# EAGLE library part MAX3002E (library tdcs)
Bidirectional logic translator MAX3002 features 8 bidrectional translator ports in a TSSOP20 or TQFN20 package MAX300X family of bidirecitonal logic translators, MAX300X Family uses an architecture specifically designed to be bidirectional without the use of a directional pin. The MAX3000E/MAX3001E/MAX3002/MAX3004–MAX3012 feature an EN input that, when low, reduces the VCC and VLsupply currents to < 2µA. The MAX3000E/MAX3001E also have ±15kV ESD protection on the I/O VCC side for greater protection in applications that route signals externally. The MAX3000E operates at a guaranteed datarate of 230kbps. The MAX3001E operates at a guaranteed data rate of 4Mbps. The MAX3002–MAX3012 operate at a guaranteed data rate of 20Mbps over the entire specified operating voltage range. Datasheet <http://datasheets.maximintegrated.com/en/ds/MAX3000E-MAX3012.pdf>
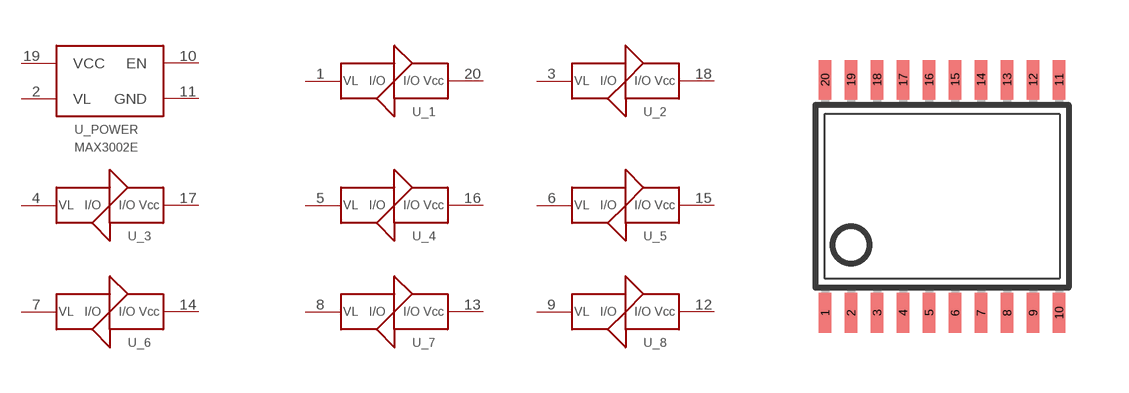
[diagram p6: symbol with the pads of TSSOP20; footprint TSSOP20]

Designator prefix U; gates _POWER=MAX300X_COM _1=MAX300X_BI_GATE _3=MAX300X_BI_GATE _4=MAX300X_BI_GATE _6=MAX300X_BI_GATE _7=MAX300X_BI_GATE _8=MAX300X_BI_GATE _5=MAX300X_BI_GATE _2=MAX300X_BI_GATE

## MAX3002EUP  [TSSOP20]
1  _1:VL
2  _POWER:VL  in
3  _2:VL
4  _3:VL
5  _4:VL
6  _5:VL
7  _6:VL
8  _7:VL
9  _8:VL
10  _POWER:EN  pas
11  _POWER:GND  in
12  _8:VCC
13  _7:VCC
14  _6:VCC
15  _5:VCC
16  _4:VCC
17  _3:VCC
18  _2:VCC
19  _POWER:VCC  in
20  _1:VCC

## Footprint TSSOP20 (pad centres in mm)
Thin Shrink Small Outline Plastic 20 MAX3223-MAX3243.pdf
smd 0.305 x 0.991: 1 -2.925,-2.918; 2 -2.275,-2.918; 3 -1.625,-2.918; 4 -0.975,-2.918; 5 -0.325,-2.918; 6 0.325,-2.918; 7 0.975,-2.918; 8 1.625,-2.918; 9 2.275,-2.918; 10 2.925,-2.918; 11 2.925,2.918; 12 2.275,2.918; 13 1.625,2.918; 14 0.975,2.918; 15 0.325,2.918; 16 -0.325,2.918; 17 -0.975,2.918; 18 -1.625,2.918; 19 -2.275,2.918; 20 -2.925,2.918